# Altium schematic symbol library SI570.SchLib: 1 symbol
Pins are listed as number, name and electrical type; pins without a type are passive.

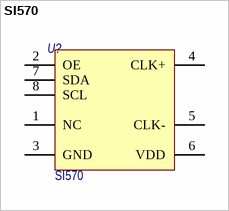
[diagram p0: symbol SI570]

## SI570
designator U?
I2C programmable XO; Потребление: 0.429; Назначение: I2C programmable XO; Наименование: SI570
footprint si570 (I2C Programmable VCO 7x5mm 8pin)
pins: 1 NC, 2 OE, 3 GND, 4 CLK+, 5 CLK-, 6 VDD, 7 SDA, 8 SCL